# Altium schematic symbol library Chip Resistor Array.SchLib: 1 symbol
Pins are listed as number, name and electrical type; pins without a type are passive.

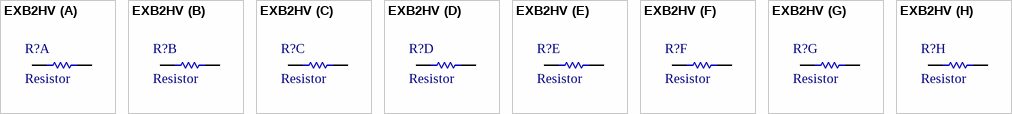
[diagram p0: symbol EXB2HV]

## EXB2HV
designator R?, comment Resistor
Chip Resistor Array
footprint EXB2HV
footprint EXB2HV - Large
part A pins: 1, 16
part B pins: 2, 15
part C pins: 3, 14
part D pins: 4, 13
part E pins: 5, 12
part F pins: 6, 11
part G pins: 7, 10
part H pins: 8, 9